# EAGLE library part MCP1727 (library microchip)
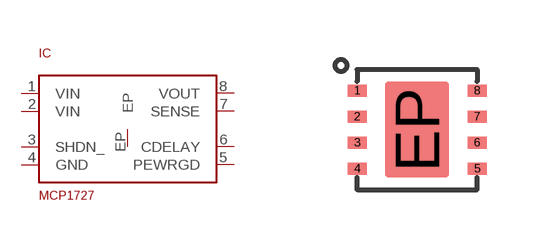
[diagram p144: symbol with the pads of DFN8-3X3; footprint DFN8-3X3]

Designator prefix IC

## MCP1727  [DFN8-3X3]
1  VIN
2  VIN
3  SHDN_
4  GND
5  PEWRGD
6  CDELAY
7  SENSE
8  VOUT
EP  EP

## Footprint DFN8-3X3 (pad centres in mm)
smd 0.5 x 0.3: 1 -1.5,0.975; 2 -1.5,0.325; 3 -1.5,-0.325; 4 -1.5,-0.975; 5 1.5,-0.975; 6 1.5,-0.325; 7 1.5,0.325; 8 1.5,0.975
smd 1.6 x 2.4: EP 0,0